# EAGLE library part MSP430FR5969 (library range_cape)
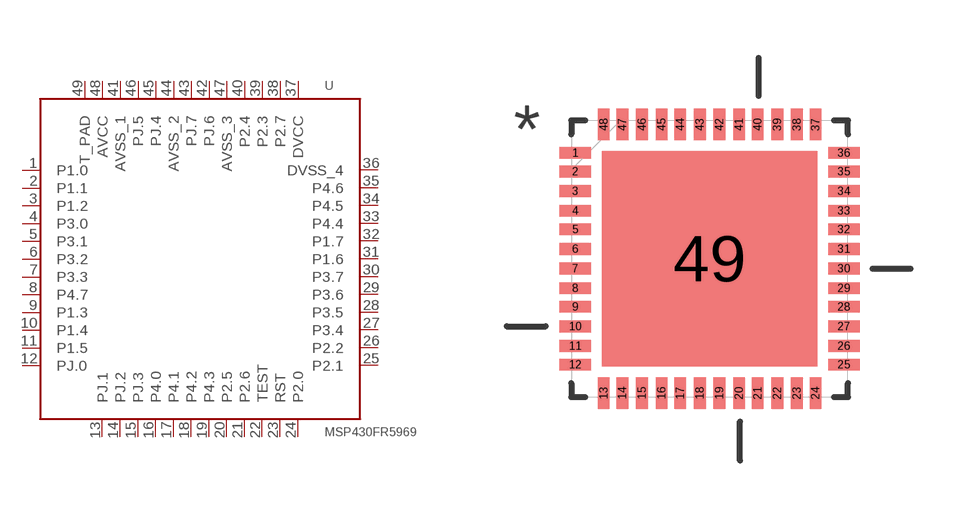
[diagram p1: symbol with the pads of QFN50P700X700X100-49N; footprint QFN50P700X700X100-49N]

Designator prefix -

## MSP430FR5969  [QFN50P700X700X100-49N]
1  P1.0  sup
2  P1.1  sup
3  P1.2  sup
4  P3.0  sup
5  P3.1  sup
6  P3.2  sup
7  P3.3  sup
8  P4.7  sup
9  P1.3  sup
10  P1.4  sup
11  P1.5  sup
12  PJ.0  sup
13  PJ.1  sup
14  PJ.2  sup
15  PJ.3  sup
16  P4.0  sup
17  P4.1  sup
18  P4.2  sup
19  P4.3  sup
20  P2.5  sup
21  P2.6  sup
22  TEST  sup
23  RST  sup
24  P2.0  sup
25  P2.1  sup
26  P2.2  sup
27  P3.4  sup
28  P3.5  sup
29  P3.6  sup
30  P3.7  sup
31  P1.6  sup
32  P1.7  sup
33  P4.4  sup
34  P4.5  sup
35  P4.6  sup
36  DVSS_4  sup
37  DVCC  sup
38  P2.7  sup
39  P2.3  sup
40  P2.4  sup
41  AVSS_1  sup
42  PJ.6  sup
43  PJ.7  sup
44  AVSS_2  sup
45  PJ.4  sup
46  PJ.5  sup
47  AVSS_3  sup
48  AVCC  sup
49  T_PAD  sup

## Footprint QFN50P700X700X100-49N (pad centres in mm)
smd 0.813 x 0.305: 1 -3.48,2.743; 2 -3.48,2.261; 3 -3.48,1.753; 4 -3.48,1.245; 5 -3.48,0.762; 6 -3.48,0.254; 7 -3.48,-0.254; 8 -3.48,-0.762; 9 -3.48,-1.245; 10 -3.48,-1.753; 11 -3.48,-2.261; 12 -3.48,-2.743; 25 3.48,-2.743; 26 3.48,-2.261; 27 3.48,-1.753; 28 3.48,-1.245; 29 3.48,-0.762; 30 3.48,-0.254; 31 3.48,0.254; 32 3.48,0.762; 33 3.48,1.245; 34 3.48,1.753; 35 3.48,2.261; 36 3.48,2.743
smd 0.305 x 0.813: 13 -2.743,-3.48; 14 -2.261,-3.48; 15 -1.753,-3.48; 16 -1.245,-3.48; 17 -0.762,-3.48; 18 -0.254,-3.48; 19 0.254,-3.48; 20 0.762,-3.48; 21 1.245,-3.48; 22 1.753,-3.48; 23 2.261,-3.48; 24 2.743,-3.48; 37 2.743,3.48; 38 2.261,3.48; 39 1.753,3.48; 40 1.245,3.48; 41 0.762,3.48; 42 0.254,3.48; 43 -0.254,3.48; 44 -0.762,3.48; 45 -1.245,3.48; 46 -1.753,3.48; 47 -2.261,3.48; 48 -2.743,3.48
smd 5.588 x 5.588: 49 0,0